# Altium schematic symbol library DCDCs.SchLib: 4 symbols
Pins are listed as number, name and electrical type; pins without a type are passive.

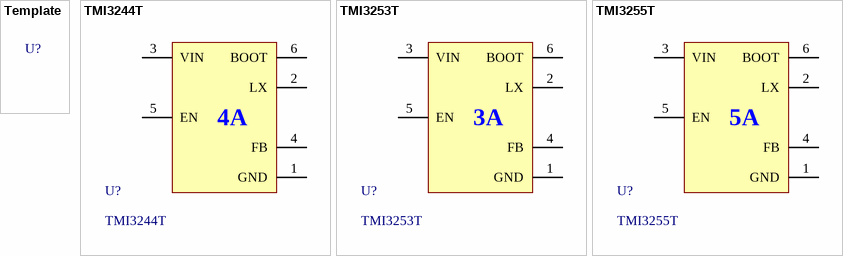
[diagram p0: symbols Template to TMI3255T]

## Template
designator U?
ComponentLink1Description: New link

## TMI3244T
designator U?
18V, Peak 4A Synchronous COT Step-Down Converter; Manufacturer: TMI; Manufacturer Part Number: TMI3244T; Supplier: LCSC; Supplier Part Number: C840542; ComponentLink1Description: New link; ComponentLink1URL: https://www.lcsc.com/product-detail/C840542.html?s_z=s_p_TMI3244T&spm=wm.fly.bg.0.xh&lcsc_vid=RABaBgEAQFJbU1QAFAVcVQJeFgNeU1QCTlBaXgJTE1QxVlNeQ1FYVFZfQlJbUjsOAxUeFF5JWBYZEEoKFBINSQcJGk4dAgUUFAk%3D
footprint SOT23-6
pins: 1 GND, 2 LX, 3 VIN, 4 FB, 5 EN, 6 BOOT
text: 4A

## TMI3253T
designator U?
600kHz 18V 3A Synchronous COT Step-Down Converter; Manufacturer: TMI; Manufacturer Part Number: TMI3253T; Supplier: LCSC; Supplier Part Number: C478945; ComponentLink1Description: New link; ComponentLink1URL: https://www.lcsc.com/product-detail/C478945.html?s_z=n_q_TMI3253T&spm=wm.fly.bg.0.xh&lcsc_vid=RABaBgEAQFJbU1QAFAVcVQJeFgNeU1QCTlBaXgJTE1QxVlNeQ1FYVFJQRFBWVTsOAxUeFF5JWBYZEEoKFBINSQcJGk4eFQsCAgIaSgADAwAHC0slT1VeUlBUWQkaCgg%3D
footprint SOT23-6
pins: 1 GND, 2 LX, 3 VIN, 4 FB, 5 EN, 6 BOOT
text: 3A

## TMI3255T
designator U?
600kHz 18V 3A Synchronous COT Step-Down Converter; Manufacturer: TMI; Manufacturer Part Number: TMI3255T; Supplier: LCSC; Supplier Part Number: C2985064; ComponentLink1Description: New link; ComponentLink1URL: https://www.lcsc.com/product-detail/C2985064.html?s_z=n_q_TMI3255&spm=wm.fly.bg.4.xh&lcsc_vid=RABaBgEAQFJbU1QAFAVcVQJeFgNeU1QCTlBaXgJTE1QxVlNeQ1FYVFNfRlZcXjsOAxUeFF5JWBYZEEoKFBINSQcJGk4eFQsCAgIaSgADAwAHC0slQ1ZWXlBTWQkaCgg%3D
footprint SOT23-6
pins: 1 GND, 2 LX, 3 VIN, 4 FB, 5 EN, 6 BOOT
text: 5A